# Altium schematic symbol library ferrita.SchLib: 1 symbol
Pins are listed as number, name and electrical type; pins without a type are passive.

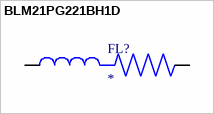
[diagram p0: symbol BLM21PG221BH1D]

## BLM21PG221BH1D
designator FL?
MP: BLM21PG221BH1D; Package: None; Price: None; Value: *; Availability: Unavailable
footprint BEADC2012X105N
pins: 1, 2